# Altium integrated library Motorola Interface Line Transceiver.IntLib: 54 symbols (part 1 of 2)
Pins are listed as number, name and electrical type; pins without a type are passive.

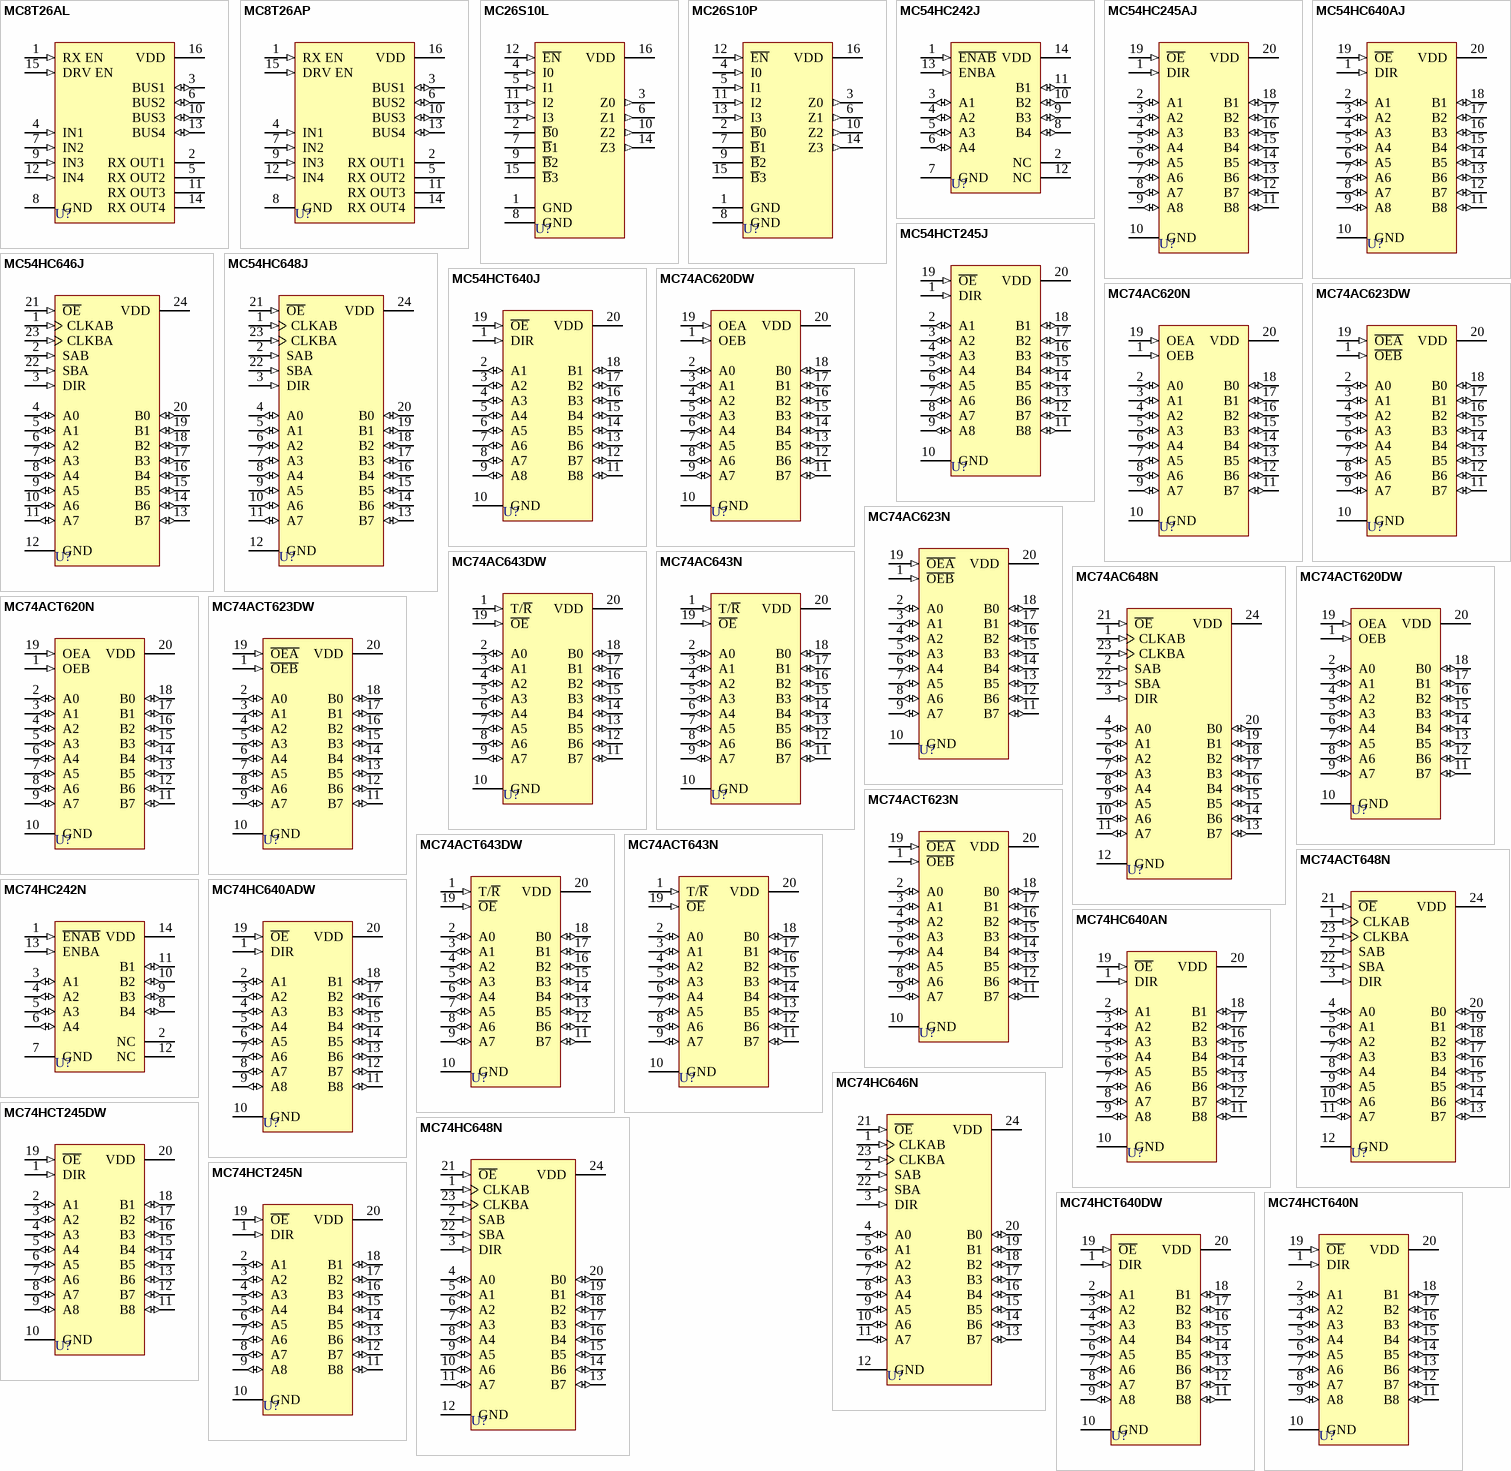
[diagram p0: symbols MC8T26AL to MC74HCT640N]

## MC8T26AL
designator U?
Quad Three-State Bus Transceiver; Published: 17-Jul-2002; LatestRevisionDate: 06-Jun-2005; LatestRevisionNote: Stylized 3D Model Added.; DatasheetVersion: 1988; PackageReference: 620-10; Publisher: Altium Limited; PackageDescription: DIP; 16 Leads; Row Spacing 7.62 mm; Pitch 2.54 mm; ComponentLink1Description: Manufacturer Link; ComponentLink1URL: http://www.onsemi.com/site/products/parametrics/0,4446,178,00.html
footprint 620-10 (DIP; 16 Leads; Row Spacing 7.62 mm; Pitch 2.54 mm)
3D model 620-10 (DIP; 16 Leads; Row Spacing 7.62 mm; Pitch 2.54 mm)
pins: 1 RX EN (in), 2 RX OUT1 (hiz), 3 BUS1 (io), 4 IN1 (in), 5 RX OUT2 (hiz), 6 BUS2 (io), 7 IN2 (in), 8 GND (power), 9 IN3 (in), 10 BUS3 (io), 11 RX OUT3 (hiz), 12 IN4 (in), 13 BUS4 (io), 14 RX OUT4 (hiz), 15 DRV EN (in), 16 VDD (power)

## MC8T26AP
designator U?
Quad Three-State Bus Transceiver; Published: 17-Jul-2002; LatestRevisionDate: 06-Jun-2005; LatestRevisionNote: Stylized 3D Model Added.; DatasheetVersion: 1988; PackageReference: 648-06; Publisher: Altium Limited; PackageDescription: DIP; 16 Leads; Row Spacing 7.62 mm; Pitch 2.54 mm; ComponentLink1Description: Manufacturer Link; ComponentLink1URL: http://www.onsemi.com/site/products/parametrics/0,4446,178,00.html
footprint 648-06 (DIP; 16 Leads; Row Spacing 7.62 mm; Pitch 2.54 mm)
3D model 648-06 (DIP; 16 Leads; Row Spacing 7.62 mm; Pitch 2.54 mm)
pins: 1 RX EN (in), 2 RX OUT1 (hiz), 3 BUS1 (io), 4 IN1 (in), 5 RX OUT2 (hiz), 6 BUS2 (io), 7 IN2 (in), 8 GND (power), 9 IN3 (in), 10 BUS3 (io), 11 RX OUT3 (hiz), 12 IN4 (in), 13 BUS4 (io), 14 RX OUT4 (hiz), 15 DRV EN (in), 16 VDD (power)

## MC26S10L
designator U?
Quad Open-Collector Bus Transceiver; Published: 17-Jul-2002; LatestRevisionDate: 06-Jun-2005; LatestRevisionNote: Stylized 3D Model Added.; DatasheetVersion: 1988; PackageReference: 620-10; Publisher: Altium Limited; PackageDescription: DIP; 16 Leads; Row Spacing 7.62 mm; Pitch 2.54 mm; ComponentLink1Description: Manufacturer Link; ComponentLink1URL: http://www.onsemi.com/site/products/parametrics/0,4446,178,00.html
footprint 620-10 (DIP; 16 Leads; Row Spacing 7.62 mm; Pitch 2.54 mm)
3D model 620-10 (DIP; 16 Leads; Row Spacing 7.62 mm; Pitch 2.54 mm)
pins: 1 GND (power), 2 ~{B}0 (oc), 3 Z0 (out), 4 I0 (in), 5 I1 (in), 6 Z1 (out), 7 ~{B}1 (oc), 8 GND (power), 9 ~{B}2 (oc), 10 Z2 (out), 11 I2 (in), 12 ~{EN} (in), 13 I3 (in), 14 Z3 (out), 15 ~{B}3 (oc), 16 VDD (power)

## MC26S10P
designator U?
Quad Open-Collector Bus Transceiver; Published: 17-Jul-2002; LatestRevisionDate: 06-Jun-2005; LatestRevisionNote: Stylized 3D Model Added.; DatasheetVersion: 1988; PackageReference: 648-06; Publisher: Altium Limited; PackageDescription: DIP; 16 Leads; Row Spacing 7.62 mm; Pitch 2.54 mm; ComponentLink1Description: Manufacturer Link; ComponentLink1URL: http://www.onsemi.com/site/products/parametrics/0,4446,178,00.html
footprint 648-06 (DIP; 16 Leads; Row Spacing 7.62 mm; Pitch 2.54 mm)
3D model 648-06 (DIP; 16 Leads; Row Spacing 7.62 mm; Pitch 2.54 mm)
pins: 1 GND (power), 2 ~{B}0 (oc), 3 Z0 (out), 4 I0 (in), 5 I1 (in), 6 Z1 (out), 7 ~{B}1 (oc), 8 GND (power), 9 ~{B}2 (oc), 10 Z2 (out), 11 I2 (in), 12 ~{EN} (in), 13 I3 (in), 14 Z3 (out), 15 ~{B}3 (oc), 16 VDD (power)

## MC54HC242J
designator U?
Quad 3-State Inverting Bus Transceiver; Published: 17-Jul-2002; LatestRevisionDate: 06-Jun-2005; LatestRevisionNote: Stylized 3D Model Added.; DatasheetVersion: 1989; PackageReference: 632-08; Publisher: Altium Limited; PackageDescription: DIP; 14 Leads; Row Spacing 7.62 mm; Pitch 2.54 mm; ComponentLink1Description: Manufacturer Link; ComponentLink1URL: http://www.onsemi.com/site/products/parametrics/0,4446,178,00.html; ComponentLink2Description: Ibis Model; ComponentLink2URL: http://www.onsemi.com/pub/Collateral/MC54HC242J.IBS
footprint 632-08 (DIP; 14 Leads; Row Spacing 7.62 mm; Pitch 2.54 mm)
3D model 632-08 (DIP; 14 Leads; Row Spacing 7.62 mm; Pitch 2.54 mm)
signal-integrity model MC54HC242J
pins: 1 ~{ENAB} (in), 2 NC, 3 A1 (io), 4 A2 (io), 5 A3 (io), 6 A4 (io), 7 GND (power), 8 B4 (io), 9 B3 (io), 10 B2 (io), 11 B1 (io), 12 NC, 13 ENBA (in), 14 VDD (power)

## MC54HC245AJ
designator U?
Octal 3-State Non-Inverting Bus Transceiver; Published: 17-Jul-2002; LatestRevisionDate: 06-Jun-2005; LatestRevisionNote: Stylized 3D Model Added.; DatasheetVersion: 1989; PackageReference: 732-03; Publisher: Altium Limited; PackageDescription: DIP; 20 Leads; Row Spacing 7.62 mm; Pitch 2.54 mm; Code_JEDEC: MS-015-AE; ComponentLink1Description: Manufacturer Link; ComponentLink1URL: http://www.onsemi.com/site/products/parametrics/0,4446,178,00.html; ComponentLink2Description: Ibis Model; ComponentLink2URL: http://www.onsemi.com/pub/Collateral/MC54HC245AJ.IBS
footprint 732-03 (DIP; 20 Leads; Row Spacing 7.62 mm; Pitch 2.54 mm)
3D model 732-03 (DIP; 20 Leads; Row Spacing 7.62 mm; Pitch 2.54 mm)
signal-integrity model MC54HC245AJ
pins: 1 DIR (in), 2 A1 (io), 3 A2 (io), 4 A3 (io), 5 A4 (io), 6 A5 (io), 7 A6 (io), 8 A7 (io), 9 A8 (io), 10 GND (power), 11 B8 (io), 12 B7 (io), 13 B6 (io), 14 B5 (io), 15 B4 (io), 16 B3 (io), 17 B2 (io), 18 B1 (io), 19 ~{OE} (in), 20 VDD (power)

## MC54HC640AJ
designator U?
Octal 3-State Inverting Bus Transceiver; Published: 17-Jul-2002; LatestRevisionDate: 06-Jun-2005; LatestRevisionNote: Stylized 3D Model Added.; DatasheetVersion: 1989; PackageReference: 732-03; Publisher: Altium Limited; PackageDescription: DIP; 20 Leads; Row Spacing 7.62 mm; Pitch 2.54 mm; Code_JEDEC: MS-015-AE; ComponentLink1Description: Manufacturer Link; ComponentLink1URL: http://www.onsemi.com/site/products/parametrics/0,4446,178,00.html
footprint 732-03 (DIP; 20 Leads; Row Spacing 7.62 mm; Pitch 2.54 mm)
3D model 732-03 (DIP; 20 Leads; Row Spacing 7.62 mm; Pitch 2.54 mm)
signal-integrity model MC54HC640AJ
pins: 1 DIR (in), 2 A1 (io), 3 A2 (io), 4 A3 (io), 5 A4 (io), 6 A5 (io), 7 A6 (io), 8 A7 (io), 9 A8 (io), 10 GND (power), 11 B8 (io), 12 B7 (io), 13 B6 (io), 14 B5 (io), 15 B4 (io), 16 B3 (io), 17 B2 (io), 18 B1 (io), 19 ~{OE} (in), 20 VDD (power)

## MC54HC646J
designator U?
Octal 3-State Non-Inverting Bus Transceiver and D-Type Flip-Flop; Published: 17-Jul-2002; LatestRevisionDate: 06-Jun-2005; LatestRevisionNote: Stylized 3D Model Added.; DatasheetVersion: 1989; PackageReference: 758-01; Publisher: Altium Limited; PackageDescription: DIP; 24 Leads; Row Spacing 7.62 mm; Pitch 2.54 mm; Code_JEDEC: MS-001-AF; ComponentLink1Description: Manufacturer Link; ComponentLink1URL: http://www.onsemi.com/site/products/parametrics/0,4446,178,00.html; ComponentLink2Description: Ibis Model; ComponentLink2URL: http://www.onsemi.com/pub/Collateral/MC54HC646J.IBS
footprint 758-01 (DIP; 24 Leads; Row Spacing 7.62 mm; Pitch 2.54 mm)
3D model 724-03 (DIP; 24 Leads; Row Spacing 7.62 mm; Pitch 2.54 mm)
signal-integrity model MC54HC646J
pins: 1 CLKAB (in), 2 SAB (in), 3 DIR (in), 4 A0 (io), 5 A1 (io), 6 A2 (io), 7 A3 (io), 8 A4 (io), 9 A5 (io), 10 A6 (io), 11 A7 (io), 12 GND (power), 13 B7 (io), 14 B6 (io), 15 B5 (io), 16 B4 (io), 17 B3 (io), 18 B2 (io), 19 B1 (io), 20 B0 (io), 21 ~{OE} (in), 22 SBA (in), 23 CLKBA (in), 24 VDD (power)

## MC54HC648J
designator U?
Octal 3-State Inverting Bus Transceiver and D-Type Flip-Flop; Published: 17-Jul-2002; LatestRevisionDate: 06-Jun-2005; LatestRevisionNote: Stylized 3D Model Added.; DatasheetVersion: 1989; PackageReference: 758-01; Publisher: Altium Limited; PackageDescription: DIP; 24 Leads; Row Spacing 7.62 mm; Pitch 2.54 mm; Code_JEDEC: MS-001-AF; ComponentLink1Description: Manufacturer Link; ComponentLink1URL: http://www.onsemi.com/site/products/parametrics/0,4446,178,00.html; ComponentLink2Description: Ibis Model; ComponentLink2URL: http://www.onsemi.com/pub/Collateral/MC54HC646J.IBS
footprint 758-01 (DIP; 24 Leads; Row Spacing 7.62 mm; Pitch 2.54 mm)
3D model 724-03 (DIP; 24 Leads; Row Spacing 7.62 mm; Pitch 2.54 mm)
signal-integrity model MC54HC648J
pins: 1 CLKAB (in), 2 SAB (in), 3 DIR (in), 4 A0 (io), 5 A1 (io), 6 A2 (io), 7 A3 (io), 8 A4 (io), 9 A5 (io), 10 A6 (io), 11 A7 (io), 12 GND (power), 13 B7 (io), 14 B6 (io), 15 B5 (io), 16 B4 (io), 17 B3 (io), 18 B2 (io), 19 B1 (io), 20 B0 (io), 21 ~{OE} (in), 22 SBA (in), 23 CLKBA (in), 24 VDD (power)

## MC54HCT245J
designator U?
Octal 3-State Non-Inverting Bus Transceiver with LSTTL-Compatible Inputs; Published: 17-Jul-2002; LatestRevisionDate: 06-Jun-2005; LatestRevisionNote: Stylized 3D Model Added.; DatasheetVersion: 1989; PackageReference: 732-03; Publisher: Altium Limited; PackageDescription: DIP; 20 Leads; Row Spacing 7.62 mm; Pitch 2.54 mm; Code_JEDEC: MS-015-AE; ComponentLink1Description: Manufacturer Link; ComponentLink1URL: http://www.onsemi.com/site/products/parametrics/0,4446,178,00.html
footprint 732-03 (DIP; 20 Leads; Row Spacing 7.62 mm; Pitch 2.54 mm)
3D model 732-03 (DIP; 20 Leads; Row Spacing 7.62 mm; Pitch 2.54 mm)
signal-integrity model MC54HCT245J
pins: 1 DIR (in), 2 A1 (io), 3 A2 (io), 4 A3 (io), 5 A4 (io), 6 A5 (io), 7 A6 (io), 8 A7 (io), 9 A8 (io), 10 GND (power), 11 B8 (io), 12 B7 (io), 13 B6 (io), 14 B5 (io), 15 B4 (io), 16 B3 (io), 17 B2 (io), 18 B1 (io), 19 ~{OE} (in), 20 VDD (power)

## MC54HCT640J
designator U?
Octal 3-State Inverting Bus Transceiver with LSTTL-Compatible Inputs; Published: 17-Jul-2002; LatestRevisionDate: 06-Jun-2005; LatestRevisionNote: Stylized 3D Model Added.; DatasheetVersion: 1989; PackageReference: 732-03; Publisher: Altium Limited; PackageDescription: DIP; 20 Leads; Row Spacing 7.62 mm; Pitch 2.54 mm; Code_JEDEC: MS-015-AE; ComponentLink1Description: Manufacturer Link; ComponentLink1URL: http://www.onsemi.com/site/products/parametrics/0,4446,178,00.html
footprint 732-03 (DIP; 20 Leads; Row Spacing 7.62 mm; Pitch 2.54 mm)
3D model 732-03 (DIP; 20 Leads; Row Spacing 7.62 mm; Pitch 2.54 mm)
signal-integrity model MC54HCT640J
pins: 1 DIR (in), 2 A1 (io), 3 A2 (io), 4 A3 (io), 5 A4 (io), 6 A5 (io), 7 A6 (io), 8 A7 (io), 9 A8 (io), 10 GND (power), 11 B8 (io), 12 B7 (io), 13 B6 (io), 14 B5 (io), 15 B4 (io), 16 B3 (io), 17 B2 (io), 18 B1 (io), 19 ~{OE} (in), 20 VDD (power)

## MC74AC620DW
designator U?
Octal Bidirectional Transceiver with 3-State Outputs; Published: 17-Jul-2002; LatestRevisionDate: 13-Apr-2006; LatestRevisionNote: IPC-7351 Footprint Added.; DatasheetVersion: 1990; PackageReference: 751D-03; Publisher: Altium Limited; PackageDescription: 20-Pin Small Outline Integrated Circuit 1.27 mm Pitch; ComponentLink1Description: Manufacturer Link; ComponentLink1URL: http://www.onsemi.com/site/products/parametrics/0,4446,178,00.html; ComponentLink2Description: Ibis Model; ComponentLink2URL: http://www.onsemi.com/pub/Collateral/MC74ACT620N.IBS
footprint 751D-03_N (SOIC, 20-Leads, Body 12.8x7.5mm, Pitch 1.27mm, IPC Medium Density)
footprint 751D-03_L (SOIC, 20-Leads, Body 12.8x7.5mm, Pitch 1.27mm, IPC High Density)
footprint 751D-03_M (SOIC, 20-Leads, Body 12.8x7.5mm, Pitch 1.27mm, IPC Low Density)
3D model 751D-03 (20-Pin Small Outline Integrated Circuit 1.27 mm Pitch)
signal-integrity model MC74AC620DW
pins: 1 OEB (in), 2 A0 (io), 3 A1 (io), 4 A2 (io), 5 A3 (io), 6 A4 (io), 7 A5 (io), 8 A6 (io), 9 A7 (io), 10 GND (power), 11 B7 (io), 12 B6 (io), 13 B5 (io), 14 B4 (io), 15 B3 (io), 16 B2 (io), 17 B1 (io), 18 B0 (io), 19 OEA (in), 20 VDD (power)

## MC74AC620N
designator U?
Octal Bidirectional Transceiver with 3-State Outputs; Published: 17-Jul-2002; LatestRevisionDate: 06-Jun-2005; LatestRevisionNote: Stylized 3D Model Added.; DatasheetVersion: 1990; PackageReference: 738-03; Publisher: Altium Limited; PackageDescription: DIP; 20 Leads; Row Spacing 7.62 mm; Pitch 2.54 mm; Code_JEDEC: MS-001-AD; ComponentLink1Description: Manufacturer Link; ComponentLink1URL: http://www.onsemi.com/site/products/parametrics/0,4446,178,00.html; ComponentLink2Description: Ibis Model; ComponentLink2URL: http://www.onsemi.com/pub/Collateral/MC74ACT620N.IBS
footprint 738-03 (DIP; 20 Leads; Row Spacing 7.62 mm; Pitch 2.54 mm)
3D model 738-03 (DIP; 20 Leads; Row Spacing 7.62 mm; Pitch 2.54 mm)
signal-integrity model MC74AC620N
pins: 1 OEB (in), 2 A0 (io), 3 A1 (io), 4 A2 (io), 5 A3 (io), 6 A4 (io), 7 A5 (io), 8 A6 (io), 9 A7 (io), 10 GND (power), 11 B7 (io), 12 B6 (io), 13 B5 (io), 14 B4 (io), 15 B3 (io), 16 B2 (io), 17 B1 (io), 18 B0 (io), 19 OEA (in), 20 VDD (power)

## MC74AC623DW
designator U?
Octal Bidirectional Transceiver with 3-State Outputs; Published: 17-Jul-2002; LatestRevisionDate: 13-Apr-2006; LatestRevisionNote: IPC-7351 Footprint Added.; DatasheetVersion: 1990; PackageReference: 751D-03; Publisher: Altium Limited; PackageDescription: 20-Pin Small Outline Integrated Circuit 1.27 mm Pitch; ComponentLink1Description: Manufacturer Link; ComponentLink1URL: http://www.onsemi.com/site/products/parametrics/0,4446,178,00.html; ComponentLink2Description: Ibis Model; ComponentLink2URL: http://www.onsemi.com/pub/Collateral/MC74AC623N.IBS
footprint 751D-03_N (SOIC, 20-Leads, Body 12.8x7.5mm, Pitch 1.27mm, IPC Medium Density)
footprint 751D-03_L (SOIC, 20-Leads, Body 12.8x7.5mm, Pitch 1.27mm, IPC High Density)
footprint 751D-03_M (SOIC, 20-Leads, Body 12.8x7.5mm, Pitch 1.27mm, IPC Low Density)
3D model 751D-03 (20-Pin Small Outline Integrated Circuit 1.27 mm Pitch)
signal-integrity model MC74AC623DW
pins: 1 ~{OEB} (in), 2 A0 (io), 3 A1 (io), 4 A2 (io), 5 A3 (io), 6 A4 (io), 7 A5 (io), 8 A6 (io), 9 A7 (io), 10 GND (power), 11 B7 (io), 12 B6 (io), 13 B5 (io), 14 B4 (io), 15 B3 (io), 16 B2 (io), 17 B1 (io), 18 B0 (io), 19 ~{OEA} (in), 20 VDD (power)

## MC74AC623N
designator U?
Octal Bidirectional Transceiver with 3-State Outputs; Published: 17-Jul-2002; LatestRevisionDate: 06-Jun-2005; LatestRevisionNote: Stylized 3D Model Added.; DatasheetVersion: 1990; PackageReference: 738-03; Publisher: Altium Limited; PackageDescription: DIP; 20 Leads; Row Spacing 7.62 mm; Pitch 2.54 mm; Code_JEDEC: MS-001-AD; ComponentLink1Description: Manufacturer Link; ComponentLink1URL: http://www.onsemi.com/site/products/parametrics/0,4446,178,00.html; ComponentLink2Description: Ibis Model; ComponentLink2URL: http://www.onsemi.com/pub/Collateral/MC74AC623N.IBS
footprint 738-03 (DIP; 20 Leads; Row Spacing 7.62 mm; Pitch 2.54 mm)
3D model 738-03 (DIP; 20 Leads; Row Spacing 7.62 mm; Pitch 2.54 mm)
signal-integrity model MC74AC623N
pins: 1 ~{OEB} (in), 2 A0 (io), 3 A1 (io), 4 A2 (io), 5 A3 (io), 6 A4 (io), 7 A5 (io), 8 A6 (io), 9 A7 (io), 10 GND (power), 11 B7 (io), 12 B6 (io), 13 B5 (io), 14 B4 (io), 15 B3 (io), 16 B2 (io), 17 B1 (io), 18 B0 (io), 19 ~{OEA} (in), 20 VDD (power)

## MC74AC643DW
designator U?
Octal Bidirectional Transceiver with 3-State Outputs; Published: 17-Jul-2002; LatestRevisionDate: 13-Apr-2006; LatestRevisionNote: IPC-7351 Footprint Added.; DatasheetVersion: 1990; PackageReference: 751D-03; Publisher: Altium Limited; PackageDescription: 20-Pin Small Outline Integrated Circuit 1.27 mm Pitch; ComponentLink1Description: Manufacturer Link; ComponentLink1URL: http://www.onsemi.com/site/products/parametrics/0,4446,178,00.html
footprint 751D-03_N (SOIC, 20-Leads, Body 12.8x7.5mm, Pitch 1.27mm, IPC Medium Density)
footprint 751D-03_L (SOIC, 20-Leads, Body 12.8x7.5mm, Pitch 1.27mm, IPC High Density)
footprint 751D-03_M (SOIC, 20-Leads, Body 12.8x7.5mm, Pitch 1.27mm, IPC Low Density)
3D model 751D-03 (20-Pin Small Outline Integrated Circuit 1.27 mm Pitch)
signal-integrity model MC74AC643DW
pins: 1 T/~{R} (in), 2 A0 (io), 3 A1 (io), 4 A2 (io), 5 A3 (io), 6 A4 (io), 7 A5 (io), 8 A6 (io), 9 A7 (io), 10 GND (power), 11 B7 (io), 12 B6 (io), 13 B5 (io), 14 B4 (io), 15 B3 (io), 16 B2 (io), 17 B1 (io), 18 B0 (io), 19 ~{OE} (in), 20 VDD (power)

## MC74AC643N
designator U?
Octal Bidirectional Transceiver with 3-State Outputs; Published: 17-Jul-2002; LatestRevisionDate: 06-Jun-2005; LatestRevisionNote: Stylized 3D Model Added.; DatasheetVersion: 1990; PackageReference: 738-03; Publisher: Altium Limited; PackageDescription: DIP; 20 Leads; Row Spacing 7.62 mm; Pitch 2.54 mm; Code_JEDEC: MS-001-AD; ComponentLink1Description: Manufacturer Link; ComponentLink1URL: http://www.onsemi.com/site/products/parametrics/0,4446,178,00.html
footprint 738-03 (DIP; 20 Leads; Row Spacing 7.62 mm; Pitch 2.54 mm)
3D model 738-03 (DIP; 20 Leads; Row Spacing 7.62 mm; Pitch 2.54 mm)
signal-integrity model MC74AC643N
pins: 1 T/~{R} (in), 2 A0 (io), 3 A1 (io), 4 A2 (io), 5 A3 (io), 6 A4 (io), 7 A5 (io), 8 A6 (io), 9 A7 (io), 10 GND (power), 11 B7 (io), 12 B6 (io), 13 B5 (io), 14 B4 (io), 15 B3 (io), 16 B2 (io), 17 B1 (io), 18 B0 (io), 19 ~{OE} (in), 20 VDD (power)

## MC74AC648N
designator U?
Octal Bus Transceiver and Register; Published: 17-Jul-2002; LatestRevisionDate: 06-Jun-2005; LatestRevisionNote: Stylized 3D Model Added.; DatasheetVersion: 1990; PackageReference: 724-03; Publisher: Altium Limited; PackageDescription: DIP; 24 Leads; Row Spacing 7.62 mm; Pitch 2.54 mm; Code_JEDEC: MS-001-AF; ComponentLink1Description: Manufacturer Link; ComponentLink1URL: http://www.onsemi.com/site/products/parametrics/0,4446,178,00.html
footprint 724-03 (DIP; 24 Leads; Row Spacing 7.62 mm; Pitch 2.54 mm)
3D model 724-03 (DIP; 24 Leads; Row Spacing 7.62 mm; Pitch 2.54 mm)
signal-integrity model MC74AC648N
pins: 1 CLKAB (in), 2 SAB (in), 3 DIR (in), 4 A0 (io), 5 A1 (io), 6 A2 (io), 7 A3 (io), 8 A4 (io), 9 A5 (io), 10 A6 (io), 11 A7 (io), 12 GND (power), 13 B7 (io), 14 B6 (io), 15 B5 (io), 16 B4 (io), 17 B3 (io), 18 B2 (io), 19 B1 (io), 20 B0 (io), 21 ~{OE} (in), 22 SBA (in), 23 CLKBA (in), 24 VDD (power)

## MC74ACT620DW
designator U?
Octal Bidirectional Transceiver with 3-State Outputs; Published: 17-Jul-2002; LatestRevisionDate: 13-Apr-2006; LatestRevisionNote: IPC-7351 Footprint Added.; DatasheetVersion: 1990; PackageReference: 751D-03; Publisher: Altium Limited; PackageDescription: 20-Pin Small Outline Integrated Circuit 1.27 mm Pitch; ComponentLink1Description: Manufacturer Link; ComponentLink1URL: http://www.onsemi.com/site/products/parametrics/0,4446,178,00.html; ComponentLink2Description: Ibis Model; ComponentLink2URL: http://www.onsemi.com/pub/Collateral/MC74ACT620N.IBS
footprint 751D-03_N (SOIC, 20-Leads, Body 12.8x7.5mm, Pitch 1.27mm, IPC Medium Density)
footprint 751D-03_L (SOIC, 20-Leads, Body 12.8x7.5mm, Pitch 1.27mm, IPC High Density)
footprint 751D-03_M (SOIC, 20-Leads, Body 12.8x7.5mm, Pitch 1.27mm, IPC Low Density)
3D model 751D-03 (20-Pin Small Outline Integrated Circuit 1.27 mm Pitch)
signal-integrity model MC74ACT620DW
pins: 1 OEB (in), 2 A0 (io), 3 A1 (io), 4 A2 (io), 5 A3 (io), 6 A4 (io), 7 A5 (io), 8 A6 (io), 9 A7 (io), 10 GND (power), 11 B7 (io), 12 B6 (io), 13 B5 (io), 14 B4 (io), 15 B3 (io), 16 B2 (io), 17 B1 (io), 18 B0 (io), 19 OEA (in), 20 VDD (power)

## MC74ACT620N
designator U?
Octal Bidirectional Transceiver with 3-State Outputs; Published: 17-Jul-2002; LatestRevisionDate: 06-Jun-2005; LatestRevisionNote: Stylized 3D Model Added.; DatasheetVersion: 1990; PackageReference: 738-03; Publisher: Altium Limited; PackageDescription: DIP; 20 Leads; Row Spacing 7.62 mm; Pitch 2.54 mm; Code_JEDEC: MS-001-AD; ComponentLink1Description: Manufacturer Link; ComponentLink1URL: http://www.onsemi.com/site/products/parametrics/0,4446,178,00.html; ComponentLink2Description: Ibis Model; ComponentLink2URL: http://www.onsemi.com/pub/Collateral/MC74ACT620N.IBS
footprint 738-03 (DIP; 20 Leads; Row Spacing 7.62 mm; Pitch 2.54 mm)
3D model 738-03 (DIP; 20 Leads; Row Spacing 7.62 mm; Pitch 2.54 mm)
signal-integrity model MC74ACT620N
pins: 1 OEB (in), 2 A0 (io), 3 A1 (io), 4 A2 (io), 5 A3 (io), 6 A4 (io), 7 A5 (io), 8 A6 (io), 9 A7 (io), 10 GND (power), 11 B7 (io), 12 B6 (io), 13 B5 (io), 14 B4 (io), 15 B3 (io), 16 B2 (io), 17 B1 (io), 18 B0 (io), 19 OEA (in), 20 VDD (power)

## MC74ACT623DW
designator U?
Octal Bidirectional Transceiver with 3-State Outputs; Published: 17-Jul-2002; LatestRevisionDate: 13-Apr-2006; LatestRevisionNote: IPC-7351 Footprint Added.; DatasheetVersion: 1990; PackageReference: 751D-03; Publisher: Altium Limited; PackageDescription: 20-Pin Small Outline Integrated Circuit 1.27 mm Pitch; ComponentLink1Description: Manufacturer Link; ComponentLink1URL: http://www.onsemi.com/site/products/parametrics/0,4446,178,00.html; ComponentLink2Description: Ibis Model; ComponentLink2URL: http://www.onsemi.com/pub/Collateral/MC74AC623N.IBS
footprint 751D-03_N (SOIC, 20-Leads, Body 12.8x7.5mm, Pitch 1.27mm, IPC Medium Density)
footprint 751D-03_L (SOIC, 20-Leads, Body 12.8x7.5mm, Pitch 1.27mm, IPC High Density)
footprint 751D-03_M (SOIC, 20-Leads, Body 12.8x7.5mm, Pitch 1.27mm, IPC Low Density)
3D model 751D-03 (20-Pin Small Outline Integrated Circuit 1.27 mm Pitch)
signal-integrity model MC74ACT623DW
pins: 1 ~{OEB} (in), 2 A0 (io), 3 A1 (io), 4 A2 (io), 5 A3 (io), 6 A4 (io), 7 A5 (io), 8 A6 (io), 9 A7 (io), 10 GND (power), 11 B7 (io), 12 B6 (io), 13 B5 (io), 14 B4 (io), 15 B3 (io), 16 B2 (io), 17 B1 (io), 18 B0 (io), 19 ~{OEA} (in), 20 VDD (power)

## MC74ACT623N
designator U?
Octal Bidirectional Transceiver with 3-State Outputs; Published: 17-Jul-2002; LatestRevisionDate: 06-Jun-2005; LatestRevisionNote: Stylized 3D Model Added.; DatasheetVersion: 1990; PackageReference: 738-03; Publisher: Altium Limited; PackageDescription: DIP; 20 Leads; Row Spacing 7.62 mm; Pitch 2.54 mm; Code_JEDEC: MS-001-AD; ComponentLink1Description: Manufacturer Link; ComponentLink1URL: http://www.onsemi.com/site/products/parametrics/0,4446,178,00.html; ComponentLink2Description: Ibis Model; ComponentLink2URL: http://www.onsemi.com/pub/Collateral/MC74AC623N.IBS
footprint 738-03 (DIP; 20 Leads; Row Spacing 7.62 mm; Pitch 2.54 mm)
3D model 738-03 (DIP; 20 Leads; Row Spacing 7.62 mm; Pitch 2.54 mm)
signal-integrity model MC74ACT623N
pins: 1 ~{OEB} (in), 2 A0 (io), 3 A1 (io), 4 A2 (io), 5 A3 (io), 6 A4 (io), 7 A5 (io), 8 A6 (io), 9 A7 (io), 10 GND (power), 11 B7 (io), 12 B6 (io), 13 B5 (io), 14 B4 (io), 15 B3 (io), 16 B2 (io), 17 B1 (io), 18 B0 (io), 19 ~{OEA} (in), 20 VDD (power)

## MC74ACT643DW
designator U?
Octal Bidirectional Transceiver with 3-State Outputs; Published: 17-Jul-2002; LatestRevisionDate: 13-Apr-2006; LatestRevisionNote: IPC-7351 Footprint Added.; DatasheetVersion: 1990; PackageReference: 751D-03; Publisher: Altium Limited; PackageDescription: 20-Pin Small Outline Integrated Circuit 1.27 mm Pitch; ComponentLink1Description: Manufacturer Link; ComponentLink1URL: http://www.onsemi.com/site/products/parametrics/0,4446,178,00.html
footprint 751D-03_N (SOIC, 20-Leads, Body 12.8x7.5mm, Pitch 1.27mm, IPC Medium Density)
footprint 751D-03_L (SOIC, 20-Leads, Body 12.8x7.5mm, Pitch 1.27mm, IPC High Density)
footprint 751D-03_M (SOIC, 20-Leads, Body 12.8x7.5mm, Pitch 1.27mm, IPC Low Density)
3D model 751D-03 (20-Pin Small Outline Integrated Circuit 1.27 mm Pitch)
signal-integrity model MC74ACT643DW
pins: 1 T/~{R} (in), 2 A0 (io), 3 A1 (io), 4 A2 (io), 5 A3 (io), 6 A4 (io), 7 A5 (io), 8 A6 (io), 9 A7 (io), 10 GND (power), 11 B7 (io), 12 B6 (io), 13 B5 (io), 14 B4 (io), 15 B3 (io), 16 B2 (io), 17 B1 (io), 18 B0 (io), 19 ~{OE} (in), 20 VDD (power)

## MC74ACT643N
designator U?
Octal Bidirectional Transceiver with 3-State Outputs; Published: 17-Jul-2002; LatestRevisionDate: 06-Jun-2005; LatestRevisionNote: Stylized 3D Model Added.; DatasheetVersion: 1990; PackageReference: 738-03; Publisher: Altium Limited; PackageDescription: DIP; 20 Leads; Row Spacing 7.62 mm; Pitch 2.54 mm; Code_JEDEC: MS-001-AD; ComponentLink1Description: Manufacturer Link; ComponentLink1URL: http://www.onsemi.com/site/products/parametrics/0,4446,178,00.html
footprint 738-03 (DIP; 20 Leads; Row Spacing 7.62 mm; Pitch 2.54 mm)
3D model 738-03 (DIP; 20 Leads; Row Spacing 7.62 mm; Pitch 2.54 mm)
signal-integrity model MC74ACT643N
pins: 1 T/~{R} (in), 2 A0 (io), 3 A1 (io), 4 A2 (io), 5 A3 (io), 6 A4 (io), 7 A5 (io), 8 A6 (io), 9 A7 (io), 10 GND (power), 11 B7 (io), 12 B6 (io), 13 B5 (io), 14 B4 (io), 15 B3 (io), 16 B2 (io), 17 B1 (io), 18 B0 (io), 19 ~{OE} (in), 20 VDD (power)

## MC74ACT648N
designator U?
Octal Bus Transceiver and Register; Published: 17-Jul-2002; LatestRevisionDate: 06-Jun-2005; LatestRevisionNote: Stylized 3D Model Added.; DatasheetVersion: 1990; PackageReference: 724-03; Publisher: Altium Limited; PackageDescription: DIP; 24 Leads; Row Spacing 7.62 mm; Pitch 2.54 mm; Code_JEDEC: MS-001-AF; ComponentLink1Description: Manufacturer Link; ComponentLink1URL: http://www.onsemi.com/site/products/parametrics/0,4446,178,00.html
footprint 724-03 (DIP; 24 Leads; Row Spacing 7.62 mm; Pitch 2.54 mm)
3D model 724-03 (DIP; 24 Leads; Row Spacing 7.62 mm; Pitch 2.54 mm)
signal-integrity model MC74ACT648N
pins: 1 CLKAB (in), 2 SAB (in), 3 DIR (in), 4 A0 (io), 5 A1 (io), 6 A2 (io), 7 A3 (io), 8 A4 (io), 9 A5 (io), 10 A6 (io), 11 A7 (io), 12 GND (power), 13 B7 (io), 14 B6 (io), 15 B5 (io), 16 B4 (io), 17 B3 (io), 18 B2 (io), 19 B1 (io), 20 B0 (io), 21 ~{OE} (in), 22 SBA (in), 23 CLKBA (in), 24 VDD (power)

## MC74HC242N
designator U?
Quad 3-State Inverting Bus Transceiver; Published: 17-Jul-2002; LatestRevisionDate: 06-Jun-2005; LatestRevisionNote: Stylized 3D Model Added.; DatasheetVersion: 1989; PackageVersion: 1997; PackageReference: 646-06; Publisher: Altium Limited; PackageDescription: DIP; 14 Leads; Row Spacing 7.62 mm; Pitch 2.54 mm; ComponentLink1Description: Manufacturer Link; ComponentLink1URL: http://www.onsemi.com/site/products/parametrics/0,4446,178,00.html; ComponentLink2Description: Ibis Model; ComponentLink2URL: http://www.onsemi.com/pub/Collateral/MC54HC242J.IBS
footprint 646-06 (DIP; 14 Leads; Row Spacing 7.62 mm; Pitch 2.54 mm)
3D model 646-06 (DIP; 14 Leads; Row Spacing 7.62 mm; Pitch 2.54 mm)
signal-integrity model MC74HC242N
pins: 1 ~{ENAB} (in), 2 NC, 3 A1 (io), 4 A2 (io), 5 A3 (io), 6 A4 (io), 7 GND (power), 8 B4 (io), 9 B3 (io), 10 B2 (io), 11 B1 (io), 12 NC, 13 ENBA (in), 14 VDD (power)

## MC74HC640ADW
designator U?
Octal 3-State Inverting Bus Transceiver; Published: 17-Jul-2002; LatestRevisionDate: 13-Apr-2006; LatestRevisionNote: IPC-7351 Footprint Added.; DatasheetVersion: 1989; PackageReference: 751D-03; Publisher: Altium Limited; PackageDescription: 20-Pin Small Outline Integrated Circuit 1.27 mm Pitch; ComponentLink1Description: Manufacturer Link; ComponentLink1URL: http://www.onsemi.com/site/products/parametrics/0,4446,178,00.html
footprint 751D-03_N (SOIC, 20-Leads, Body 12.8x7.5mm, Pitch 1.27mm, IPC Medium Density)
footprint 751D-03_L (SOIC, 20-Leads, Body 12.8x7.5mm, Pitch 1.27mm, IPC High Density)
footprint 751D-03_M (SOIC, 20-Leads, Body 12.8x7.5mm, Pitch 1.27mm, IPC Low Density)
3D model 751D-03 (20-Pin Small Outline Integrated Circuit 1.27 mm Pitch)
signal-integrity model MC74HC640ADW
pins: 1 DIR (in), 2 A1 (io), 3 A2 (io), 4 A3 (io), 5 A4 (io), 6 A5 (io), 7 A6 (io), 8 A7 (io), 9 A8 (io), 10 GND (power), 11 B8 (io), 12 B7 (io), 13 B6 (io), 14 B5 (io), 15 B4 (io), 16 B3 (io), 17 B2 (io), 18 B1 (io), 19 ~{OE} (in), 20 VDD (power)

## MC74HC640AN
designator U?
Octal 3-State Inverting Bus Transceiver; Published: 17-Jul-2002; LatestRevisionDate: 06-Jun-2005; LatestRevisionNote: Stylized 3D Model Added.; DatasheetVersion: 1989; PackageReference: 738-03; Publisher: Altium Limited; PackageDescription: DIP; 20 Leads; Row Spacing 7.62 mm; Pitch 2.54 mm; Code_JEDEC: MS-001-AD; ComponentLink1Description: Manufacturer Link; ComponentLink1URL: http://www.onsemi.com/site/products/parametrics/0,4446,178,00.html
footprint 738-03 (DIP; 20 Leads; Row Spacing 7.62 mm; Pitch 2.54 mm)
3D model 738-03 (DIP; 20 Leads; Row Spacing 7.62 mm; Pitch 2.54 mm)
signal-integrity model MC74HC640AN
pins: 1 DIR (in), 2 A1 (io), 3 A2 (io), 4 A3 (io), 5 A4 (io), 6 A5 (io), 7 A6 (io), 8 A7 (io), 9 A8 (io), 10 GND (power), 11 B8 (io), 12 B7 (io), 13 B6 (io), 14 B5 (io), 15 B4 (io), 16 B3 (io), 17 B2 (io), 18 B1 (io), 19 ~{OE} (in), 20 VDD (power)

## MC74HC646N
designator U?
Octal 3-State Non-Inverting Bus Transceiver and D-Type Flip-Flop; Published: 17-Jul-2002; LatestRevisionDate: 06-Jun-2005; LatestRevisionNote: Stylized 3D Model Added.; DatasheetVersion: 1989; PackageReference: 724-03; Publisher: Altium Limited; PackageDescription: DIP; 24 Leads; Row Spacing 7.62 mm; Pitch 2.54 mm; Code_JEDEC: MS-001-AF; ComponentLink1Description: Manufacturer Link; ComponentLink1URL: http://www.onsemi.com/site/products/parametrics/0,4446,178,00.html; ComponentLink2Description: Ibis Model; ComponentLink2URL: http://www.onsemi.com/pub/Collateral/MC54HC646J.IBS
footprint 724-03 (DIP; 24 Leads; Row Spacing 7.62 mm; Pitch 2.54 mm)
3D model 724-03 (DIP; 24 Leads; Row Spacing 7.62 mm; Pitch 2.54 mm)
signal-integrity model MC74HC646N
pins: 1 CLKAB (in), 2 SAB (in), 3 DIR (in), 4 A0 (io), 5 A1 (io), 6 A2 (io), 7 A3 (io), 8 A4 (io), 9 A5 (io), 10 A6 (io), 11 A7 (io), 12 GND (power), 13 B7 (io), 14 B6 (io), 15 B5 (io), 16 B4 (io), 17 B3 (io), 18 B2 (io), 19 B1 (io), 20 B0 (io), 21 ~{OE} (in), 22 SBA (in), 23 CLKBA (in), 24 VDD (power)

## MC74HC648N
designator U?
Octal 3-State Inverting Bus Transceiver and D-Type Flip-Flop; Published: 17-Jul-2002; LatestRevisionDate: 06-Jun-2005; LatestRevisionNote: Stylized 3D Model Added.; DatasheetVersion: 1989; PackageReference: 724-03; Publisher: Altium Limited; PackageDescription: DIP; 24 Leads; Row Spacing 7.62 mm; Pitch 2.54 mm; Code_JEDEC: MS-001-AF; ComponentLink1Description: Manufacturer Link; ComponentLink1URL: http://www.onsemi.com/site/products/parametrics/0,4446,178,00.html; ComponentLink2Description: Ibis Model; ComponentLink2URL: http://www.onsemi.com/pub/Collateral/MC54HC646J.IBS
footprint 724-03 (DIP; 24 Leads; Row Spacing 7.62 mm; Pitch 2.54 mm)
3D model 724-03 (DIP; 24 Leads; Row Spacing 7.62 mm; Pitch 2.54 mm)
signal-integrity model MC74HC648N
pins: 1 CLKAB (in), 2 SAB (in), 3 DIR (in), 4 A0 (io), 5 A1 (io), 6 A2 (io), 7 A3 (io), 8 A4 (io), 9 A5 (io), 10 A6 (io), 11 A7 (io), 12 GND (power), 13 B7 (io), 14 B6 (io), 15 B5 (io), 16 B4 (io), 17 B3 (io), 18 B2 (io), 19 B1 (io), 20 B0 (io), 21 ~{OE} (in), 22 SBA (in), 23 CLKBA (in), 24 VDD (power)

## MC74HCT245DW
designator U?
Octal 3-State Non-Inverting Bus Transceiver with LSTTL-Compatible Inputs; Published: 17-Jul-2002; LatestRevisionDate: 13-Apr-2006; LatestRevisionNote: IPC-7351 Footprint Added.; DatasheetVersion: 1989; PackageReference: 751D-03; Publisher: Altium Limited; PackageDescription: 20-Pin Small Outline Integrated Circuit 1.27 mm Pitch; ComponentLink1Description: Manufacturer Link; ComponentLink1URL: http://www.onsemi.com/site/products/parametrics/0,4446,178,00.html
footprint 751D-03_N (SOIC, 20-Leads, Body 12.8x7.5mm, Pitch 1.27mm, IPC Medium Density)
footprint 751D-03_L (SOIC, 20-Leads, Body 12.8x7.5mm, Pitch 1.27mm, IPC High Density)
footprint 751D-03_M (SOIC, 20-Leads, Body 12.8x7.5mm, Pitch 1.27mm, IPC Low Density)
3D model 751D-03 (20-Pin Small Outline Integrated Circuit 1.27 mm Pitch)
signal-integrity model MC74HCT245DW
pins: 1 DIR (in), 2 A1 (io), 3 A2 (io), 4 A3 (io), 5 A4 (io), 6 A5 (io), 7 A6 (io), 8 A7 (io), 9 A8 (io), 10 GND (power), 11 B8 (io), 12 B7 (io), 13 B6 (io), 14 B5 (io), 15 B4 (io), 16 B3 (io), 17 B2 (io), 18 B1 (io), 19 ~{OE} (in), 20 VDD (power)

## MC74HCT245N
designator U?
Octal 3-State Non-Inverting Bus Transceiver with LSTTL-Compatible Inputs; Published: 17-Jul-2002; LatestRevisionDate: 06-Jun-2005; LatestRevisionNote: Stylized 3D Model Added.; DatasheetVersion: 1989; PackageReference: 738-03; Publisher: Altium Limited; PackageDescription: DIP; 20 Leads; Row Spacing 7.62 mm; Pitch 2.54 mm; Code_JEDEC: MS-001-AD; ComponentLink1Description: Manufacturer Link; ComponentLink1URL: http://www.onsemi.com/site/products/parametrics/0,4446,178,00.html
footprint 738-03 (DIP; 20 Leads; Row Spacing 7.62 mm; Pitch 2.54 mm)
3D model 738-03 (DIP; 20 Leads; Row Spacing 7.62 mm; Pitch 2.54 mm)
signal-integrity model MC74HCT245N
pins: 1 DIR (in), 2 A1 (io), 3 A2 (io), 4 A3 (io), 5 A4 (io), 6 A5 (io), 7 A6 (io), 8 A7 (io), 9 A8 (io), 10 GND (power), 11 B8 (io), 12 B7 (io), 13 B6 (io), 14 B5 (io), 15 B4 (io), 16 B3 (io), 17 B2 (io), 18 B1 (io), 19 ~{OE} (in), 20 VDD (power)

## MC74HCT640DW
designator U?
Octal 3-State Inverting Bus Transceiver with LSTTL-Compatible Inputs; Published: 17-Jul-2002; LatestRevisionDate: 13-Apr-2006; LatestRevisionNote: IPC-7351 Footprint Added.; DatasheetVersion: 1989; PackageReference: 751D-03; Publisher: Altium Limited; PackageDescription: 20-Pin Small Outline Integrated Circuit 1.27 mm Pitch; ComponentLink1Description: Manufacturer Link; ComponentLink1URL: http://www.onsemi.com/site/products/parametrics/0,4446,178,00.html
footprint 751D-03_N (SOIC, 20-Leads, Body 12.8x7.5mm, Pitch 1.27mm, IPC Medium Density)
footprint 751D-03_L (SOIC, 20-Leads, Body 12.8x7.5mm, Pitch 1.27mm, IPC High Density)
footprint 751D-03_M (SOIC, 20-Leads, Body 12.8x7.5mm, Pitch 1.27mm, IPC Low Density)
3D model 751D-03 (20-Pin Small Outline Integrated Circuit 1.27 mm Pitch)
signal-integrity model MC74HCT640DW
pins: 1 DIR (in), 2 A1 (io), 3 A2 (io), 4 A3 (io), 5 A4 (io), 6 A5 (io), 7 A6 (io), 8 A7 (io), 9 A8 (io), 10 GND (power), 11 B8 (io), 12 B7 (io), 13 B6 (io), 14 B5 (io), 15 B4 (io), 16 B3 (io), 17 B2 (io), 18 B1 (io), 19 ~{OE} (in), 20 VDD (power)

## MC74HCT640N
designator U?
Octal 3-State Inverting Bus Transceiver with LSTTL-Compatible Inputs; Published: 17-Jul-2002; LatestRevisionDate: 06-Jun-2005; LatestRevisionNote: Stylized 3D Model Added.; DatasheetVersion: 1989; PackageReference: 738-03; Publisher: Altium Limited; PackageDescription: DIP; 20 Leads; Row Spacing 7.62 mm; Pitch 2.54 mm; Code_JEDEC: MS-001-AD; ComponentLink1Description: Manufacturer Link; ComponentLink1URL: http://www.onsemi.com/site/products/parametrics/0,4446,178,00.html
footprint 738-03 (DIP; 20 Leads; Row Spacing 7.62 mm; Pitch 2.54 mm)
3D model 738-03 (DIP; 20 Leads; Row Spacing 7.62 mm; Pitch 2.54 mm)
signal-integrity model MC74HCT640N
pins: 1 DIR (in), 2 A1 (io), 3 A2 (io), 4 A3 (io), 5 A4 (io), 6 A5 (io), 7 A6 (io), 8 A7 (io), 9 A8 (io), 10 GND (power), 11 B8 (io), 12 B7 (io), 13 B6 (io), 14 B5 (io), 15 B4 (io), 16 B3 (io), 17 B2 (io), 18 B1 (io), 19 ~{OE} (in), 20 VDD (power)

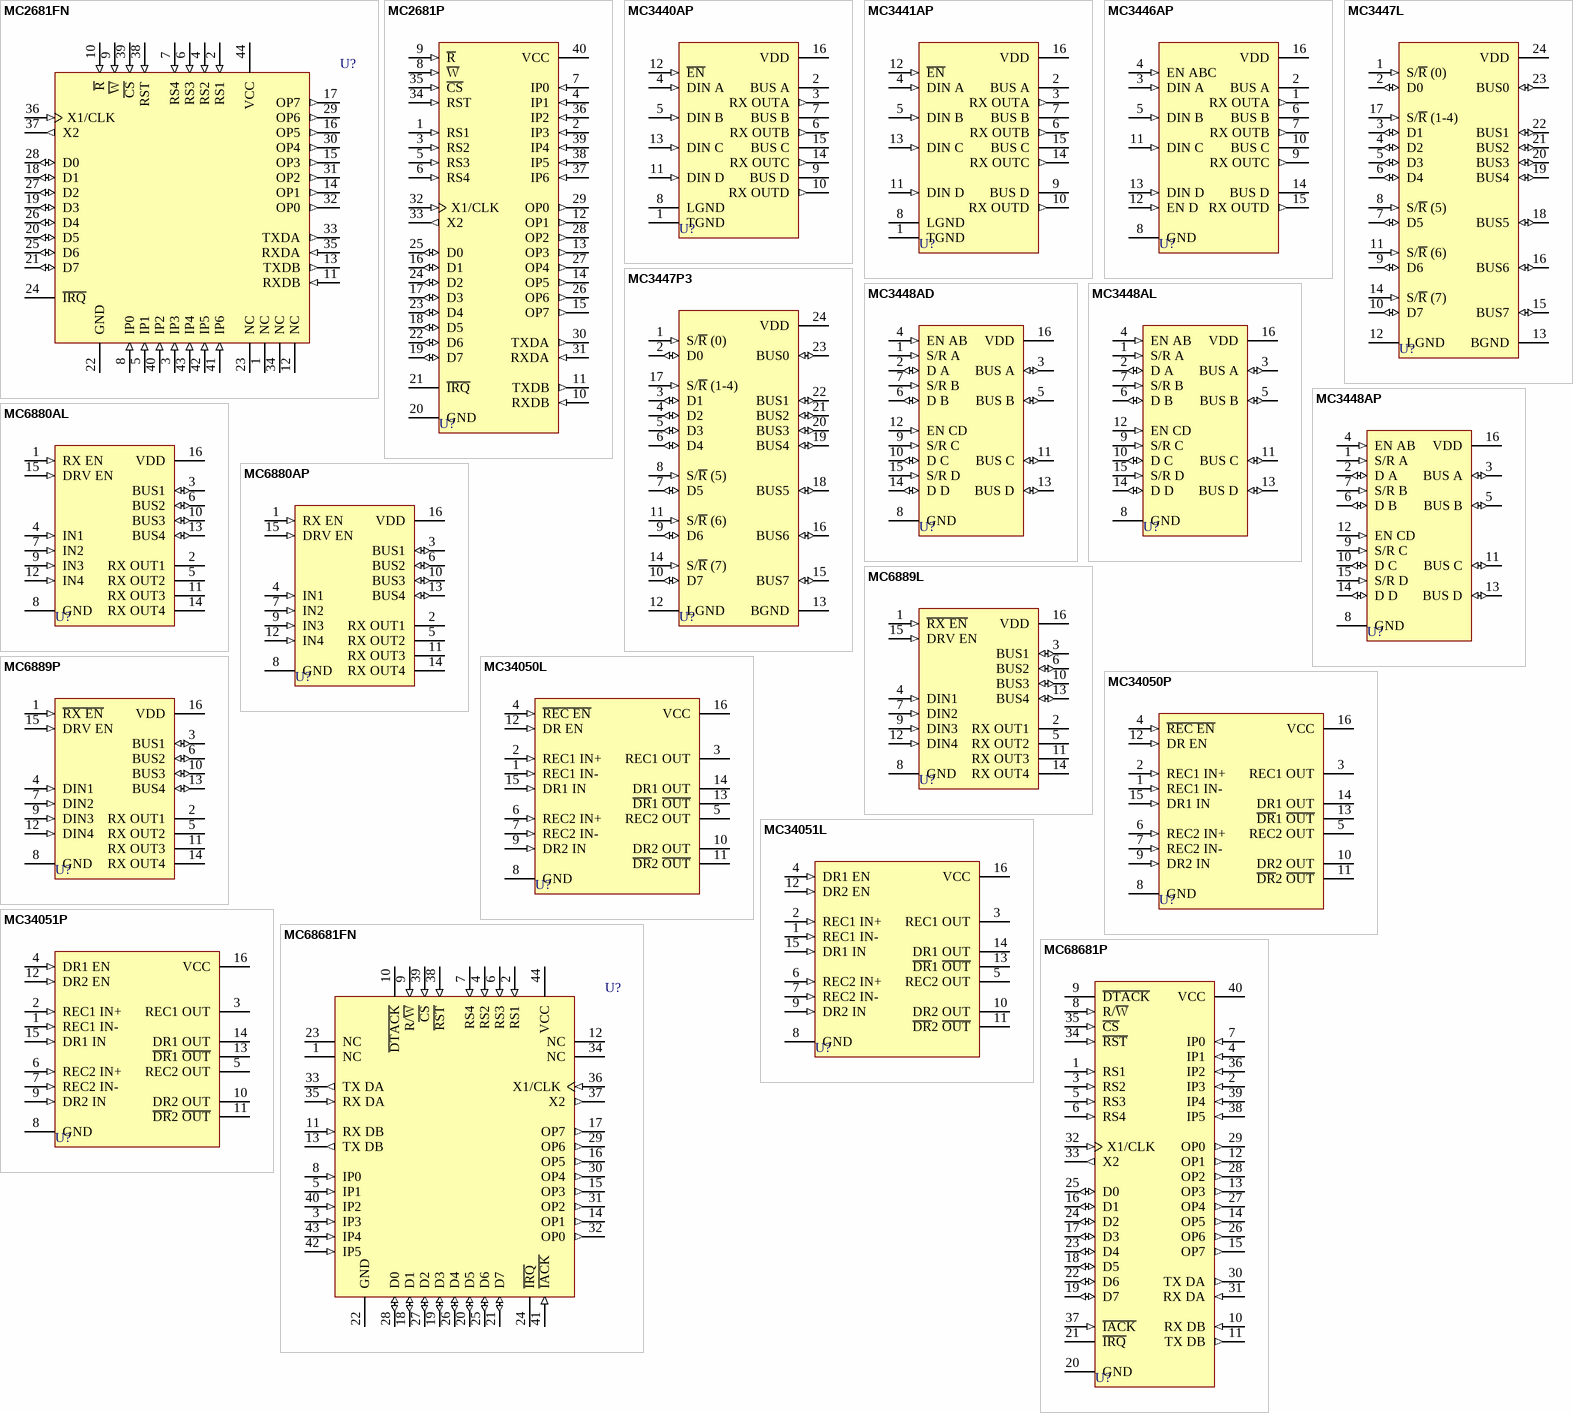
[diagram p1: symbols MC2681FN to MC68681P]

## MC2681FN
designator U?
Dual Asynchronous Receiver/Transmitter; Published: 17-Jul-2002; LatestRevisionDate: 13-Apr-2006; LatestRevisionNote: IPC-7351 Footprint Added.; DatasheetVersion: 1990; PackageVersion: rev3, Feb-2002; PackageReference: 777-02; Publisher: Altium Limited; PackageDescription: 44-Pin Plastic Leaded Chip Carrier 1.27 mm Pitch; ComponentLink1Description: Manufacturer Link; ComponentLink1URL: http://www.onsemi.com/site/products/parametrics/0,4446,178,00.html
footprint 777-02_N (Leaded Chip Carrier, 44-Leads, Body 16.6x16.6mm, Pitch 1.27mm, IPC Medium Density)
footprint 777-02_L (Leaded Chip Carrier, 44-Leads, Body 16.6x16.6mm, Pitch 1.27mm, IPC High Density)
footprint 777-02_M (Leaded Chip Carrier, 44-Leads, Body 16.6x16.6mm, Pitch 1.27mm, IPC Low Density)
3D model MC2681-777-02 (44-Pin Plastic Leaded Chip Carrier 1.27 mm Pitch)
pins: 1 NC, 2 RS1 (in), 3 IP3 (in), 4 RS2 (in), 5 IP1 (in), 6 RS3 (in), 7 RS4 (in), 8 IP0 (in), 9 ~{W} (in), 10 ~{R} (in), 11 RXDB (in), 12 NC, 13 TXDB (out), 14 OP1 (out), 15 OP3 (out), 16 OP5 (out), 17 OP7 (out), 18 D1 (io), 19 D3 (io), 20 D5 (io), 21 D7 (io), 22 GND (power), 23 NC, 24 ~{IRQ} (oc), 25 D6 (io), 26 D4 (io), 27 D2 (io), 28 D0 (io), 29 OP6 (out), 30 OP4 (out), 31 OP2 (out), 32 OP0 (out), 33 TXDA (out), 34 NC, 35 RXDA (in), 36 X1/CLK (in), 37 X2 (out), 38 RST (in), 39 ~{CS} (in), 40 IP2 (in), 41 IP6 (in), 42 IP5 (in), 43 IP4 (in), 44 VCC (power)

## MC2681P
designator U?
Dual Asynchronous Receiver/Transmitter; Published: 17-Jul-2002; LatestRevisionDate: 06-Jun-2005; LatestRevisionNote: Stylized 3D Model Added.; DatasheetVersion: 1990; PackageReference: 711-03; Publisher: Altium Limited; PackageDescription: DIP; 40 Leads; Row Spacing 15.24 mm; Pitch 2.54 mm; ComponentLink1Description: Manufacturer Link; ComponentLink1URL: http://www.onsemi.com/site/products/parametrics/0,4446,178,00.html
footprint 711-03 (DIP; 40 Leads; Row Spacing 15.24 mm; Pitch 2.54 mm)
3D model 711-03 (DIP; 40 Leads; Row Spacing 15.24 mm; Pitch 2.54 mm)
pins: 1 RS1 (in), 2 IP3 (in), 3 RS2 (in), 4 IP1 (in), 5 RS3 (in), 6 RS4 (in), 7 IP0 (in), 8 ~{W} (in), 9 ~{R} (in), 10 RXDB (in), 11 TXDB (out), 12 OP1 (out), 13 OP3 (out), 14 OP5 (out), 15 OP7 (out), 16 D1 (io), 17 D3 (io), 18 D5 (io), 19 D7 (io), 20 GND (power), 21 ~{IRQ} (oc), 22 D6 (io), 23 D4 (io), 24 D2 (io), 25 D0 (io), 26 OP6 (out), 27 OP4 (out), 28 OP2 (out), 29 OP0 (out), 30 TXDA (out), 31 RXDA (in), 32 X1/CLK (in), 33 X2 (out), 34 RST (in), 35 ~{CS} (in), 36 IP2 (in), 37 IP6 (in), 38 IP5 (in), 39 IP4 (in), 40 VCC (power)

## MC3440AP
designator U?
Quad Interface Bus Transceiver; Published: 17-Jul-2002; LatestRevisionDate: 06-Jun-2005; LatestRevisionNote: Stylized 3D Model Added.; DatasheetVersion: 1988; PackageReference: 648-06; Publisher: Altium Limited; PackageDescription: DIP; 16 Leads; Row Spacing 7.62 mm; Pitch 2.54 mm; ComponentLink1Description: Manufacturer Link; ComponentLink1URL: http://www.onsemi.com/site/products/parametrics/0,4446,178,00.html
footprint 648-06 (DIP; 16 Leads; Row Spacing 7.62 mm; Pitch 2.54 mm)
3D model 648-06 (DIP; 16 Leads; Row Spacing 7.62 mm; Pitch 2.54 mm)
pins: 1 TGND (power), 2 BUS A (oc), 3 RX OUTA (out), 4 DIN A (in), 5 DIN B (in), 6 RX OUTB (out), 7 BUS B (oc), 8 LGND (power), 9 BUS D (oc), 10 RX OUTD (out), 11 DIN D (in), 12 ~{EN} (in), 13 DIN C (in), 14 RX OUTC (out), 15 BUS C (oc), 16 VDD (power)

## MC3441AP
designator U?
Quad Interface Bus Transceiver; Published: 17-Jul-2002; LatestRevisionDate: 06-Jun-2005; LatestRevisionNote: Stylized 3D Model Added.; DatasheetVersion: 1988; PackageReference: 648-06; Publisher: Altium Limited; PackageDescription: DIP; 16 Leads; Row Spacing 7.62 mm; Pitch 2.54 mm; ComponentLink1Description: Manufacturer Link; ComponentLink1URL: http://www.onsemi.com/site/products/parametrics/0,4446,178,00.html
footprint 648-06 (DIP; 16 Leads; Row Spacing 7.62 mm; Pitch 2.54 mm)
3D model 648-06 (DIP; 16 Leads; Row Spacing 7.62 mm; Pitch 2.54 mm)
pins: 1 TGND (power), 2 BUS A (oc), 3 RX OUTA (out), 4 DIN A (in), 5 DIN B (in), 6 RX OUTB (out), 7 BUS B (oc), 8 LGND (power), 9 BUS D (oc), 10 RX OUTD (out), 11 DIN D (in), 12 ~{EN} (in), 13 DIN C (in), 14 RX OUTC (out), 15 BUS C (oc), 16 VDD (power)

## MC3446AP
designator U?
Quad Interface Bus Transceiver; Published: 17-Jul-2002; LatestRevisionDate: 06-Jun-2005; LatestRevisionNote: Stylized 3D Model Added.; DatasheetVersion: 1988; PackageReference: 648-06; Publisher: Altium Limited; PackageDescription: DIP; 16 Leads; Row Spacing 7.62 mm; Pitch 2.54 mm; ComponentLink1Description: Manufacturer Link; ComponentLink1URL: http://www.onsemi.com/site/products/parametrics/0,4446,178,00.html
footprint 648-06 (DIP; 16 Leads; Row Spacing 7.62 mm; Pitch 2.54 mm)
3D model 648-06 (DIP; 16 Leads; Row Spacing 7.62 mm; Pitch 2.54 mm)
pins: 1 RX OUTA (out), 2 BUS A (oc), 3 DIN A (in), 4 EN ABC (in), 5 DIN B (in), 6 BUS B (oc), 7 RX OUTB (out), 8 GND (power), 9 RX OUTC (out), 10 BUS C (oc), 11 DIN C (in), 12 EN D (in), 13 DIN D (in), 14 BUS D (oc), 15 RX OUTD (out), 16 VDD (power)

## MC3447L
designator U?
Octal Bi-Directional Bus Transceiver with Termination Networks; Published: 17-Jul-2002; LatestRevisionDate: 06-Jun-2005; LatestRevisionNote: Stylized 3D Model Added.; DatasheetVersion: 1988; PackageReference: 623-05; Publisher: Altium Limited; PackageDescription: DIP; 24 Leads; Row Spacing 15.24 mm; Pitch 2.54 mm; Code_JEDEC: MS-011-AA; ComponentLink1Description: Manufacturer Link; ComponentLink1URL: http://www.onsemi.com/site/products/parametrics/0,4446,178,00.html
footprint 623-05 (DIP; 24 Leads; Row Spacing 15.24 mm; Pitch 2.54 mm)
3D model 623-05 (DIP; 24 Leads; Row Spacing 15.24 mm; Pitch 2.54 mm)
pins: 1 S/~{R} (0) (in), 2 D0 (io), 3 D1 (io), 4 D2 (io), 5 D3 (io), 6 D4 (io), 7 D5 (io), 8 S/~{R} (5) (in), 9 D6 (io), 10 D7 (io), 11 S/~{R} (6) (in), 12 LGND (power), 13 BGND (power), 14 S/~{R} (7) (in), 15 BUS7 (io), 16 BUS6 (io), 17 S/~{R} (1-4) (in), 18 BUS5 (io), 19 BUS4 (io), 20 BUS3 (io), 21 BUS2 (io), 22 BUS1 (io), 23 BUS0 (io), 24 VDD (power)

## MC3447P3
designator U?
Octal Bi-Directional Bus Transceiver with Termination Networks; Published: 17-Jul-2002; LatestRevisionDate: 06-Jun-2005; LatestRevisionNote: Stylized 3D Model Added.; DatasheetVersion: 1988; PackageReference: 724-03; Publisher: Altium Limited; PackageDescription: DIP; 24 Leads; Row Spacing 7.62 mm; Pitch 2.54 mm; Code_JEDEC: MS-001-AF; ComponentLink1Description: Manufacturer Link; ComponentLink1URL: http://www.onsemi.com/site/products/parametrics/0,4446,178,00.html
footprint 724-03 (DIP; 24 Leads; Row Spacing 7.62 mm; Pitch 2.54 mm)
3D model 724-03 (DIP; 24 Leads; Row Spacing 7.62 mm; Pitch 2.54 mm)
pins: 1 S/~{R} (0) (in), 2 D0 (io), 3 D1 (io), 4 D2 (io), 5 D3 (io), 6 D4 (io), 7 D5 (io), 8 S/~{R} (5) (in), 9 D6 (io), 10 D7 (io), 11 S/~{R} (6) (in), 12 LGND (power), 13 BGND (power), 14 S/~{R} (7) (in), 15 BUS7 (io), 16 BUS6 (io), 17 S/~{R} (1-4) (in), 18 BUS5 (io), 19 BUS4 (io), 20 BUS3 (io), 21 BUS2 (io), 22 BUS1 (io), 23 BUS0 (io), 24 VDD (power)

## MC3448AD
designator U?
Quad Three-State Bus Transceiver; Published: 17-Jul-2002; LatestRevisionDate: 13-Apr-2006; LatestRevisionNote: IPC-7351 Footprint Added.; DatasheetVersion: 1988; PackageVersion: 1991; PackageReference: 751B-03; Publisher: Altium Limited; PackageDescription: 16-Pin Small Outline Integrated Circuit 1.27 mm Pitch; Code_JEDEC: MS-012-AC; Code_IPC: SOIC127P600-16; ComponentLink1Description: Manufacturer Link; ComponentLink1URL: http://www.onsemi.com/site/products/parametrics/0,4446,178,00.html
footprint 751B-03_N (SOIC, 16-Leads, Body 9.9x3.9mm, Pitch 1.27mm, IPC Medium Density)
footprint 751B-03_L (SOIC, 16-Leads, Body 9.9x3.9mm, Pitch 1.27mm, IPC High Density)
footprint 751B-03_M (SOIC, 16-Leads, Body 9.9x3.9mm, Pitch 1.27mm, IPC Low Density)
3D model 751B-03 (16-Pin Small Outline Integrated Circuit 1.27 mm Pitch)
pins: 1 S/R A (in), 2 D A (io), 3 BUS A (io), 4 EN AB (in), 5 BUS B (io), 6 D B (io), 7 S/R B (in), 8 GND (power), 9 S/R C (in), 10 D C (io), 11 BUS C (io), 12 EN CD (in), 13 BUS D (io), 14 D D (io), 15 S/R D (in), 16 VDD (power)

## MC3448AL
designator U?
Quad Three-State Bus Transceiver; Published: 17-Jul-2002; LatestRevisionDate: 06-Jun-2005; LatestRevisionNote: Stylized 3D Model Added.; DatasheetVersion: 1988; PackageReference: 620-10; Publisher: Altium Limited; PackageDescription: DIP; 16 Leads; Row Spacing 7.62 mm; Pitch 2.54 mm; ComponentLink1Description: Manufacturer Link; ComponentLink1URL: http://www.onsemi.com/site/products/parametrics/0,4446,178,00.html
footprint 620-10 (DIP; 16 Leads; Row Spacing 7.62 mm; Pitch 2.54 mm)
3D model 620-10 (DIP; 16 Leads; Row Spacing 7.62 mm; Pitch 2.54 mm)
pins: 1 S/R A (in), 2 D A (io), 3 BUS A (io), 4 EN AB (in), 5 BUS B (io), 6 D B (io), 7 S/R B (in), 8 GND (power), 9 S/R C (in), 10 D C (io), 11 BUS C (io), 12 EN CD (in), 13 BUS D (io), 14 D D (io), 15 S/R D (in), 16 VDD (power)

## MC3448AP
designator U?
Quad Three-State Bus Transceiver; Published: 17-Jul-2002; LatestRevisionDate: 06-Jun-2005; LatestRevisionNote: Stylized 3D Model Added.; DatasheetVersion: 1988; PackageReference: 648-06; Publisher: Altium Limited; PackageDescription: DIP; 16 Leads; Row Spacing 7.62 mm; Pitch 2.54 mm; ComponentLink1Description: Manufacturer Link; ComponentLink1URL: http://www.onsemi.com/site/products/parametrics/0,4446,178,00.html
footprint 648-06 (DIP; 16 Leads; Row Spacing 7.62 mm; Pitch 2.54 mm)
3D model 648-06 (DIP; 16 Leads; Row Spacing 7.62 mm; Pitch 2.54 mm)
pins: 1 S/R A (in), 2 D A (io), 3 BUS A (io), 4 EN AB (in), 5 BUS B (io), 6 D B (io), 7 S/R B (in), 8 GND (power), 9 S/R C (in), 10 D C (io), 11 BUS C (io), 12 EN CD (in), 13 BUS D (io), 14 D D (io), 15 S/R D (in), 16 VDD (power)

## MC6880AL
designator U?
Quad Three-State Bus Transceiver; Published: 17-Jul-2002; LatestRevisionDate: 06-Jun-2005; LatestRevisionNote: Stylized 3D Model Added.; DatasheetVersion: 1988; PackageReference: 620-10; Publisher: Altium Limited; PackageDescription: DIP; 16 Leads; Row Spacing 7.62 mm; Pitch 2.54 mm; ComponentLink1Description: Manufacturer Link; ComponentLink1URL: http://www.onsemi.com/site/products/parametrics/0,4446,178,00.html
footprint 620-10 (DIP; 16 Leads; Row Spacing 7.62 mm; Pitch 2.54 mm)
3D model 620-10 (DIP; 16 Leads; Row Spacing 7.62 mm; Pitch 2.54 mm)
pins: 1 RX EN (in), 2 RX OUT1 (hiz), 3 BUS1 (io), 4 IN1 (in), 5 RX OUT2 (hiz), 6 BUS2 (io), 7 IN2 (in), 8 GND (power), 9 IN3 (in), 10 BUS3 (io), 11 RX OUT3 (hiz), 12 IN4 (in), 13 BUS4 (io), 14 RX OUT4 (hiz), 15 DRV EN (in), 16 VDD (power)

## MC6880AP
designator U?
Quad Three-State Bus Transceiver; Published: 17-Jul-2002; LatestRevisionDate: 06-Jun-2005; LatestRevisionNote: Stylized 3D Model Added.; DatasheetVersion: 1988; PackageReference: 648-06; Publisher: Altium Limited; PackageDescription: DIP; 16 Leads; Row Spacing 7.62 mm; Pitch 2.54 mm; ComponentLink1Description: Manufacturer Link; ComponentLink1URL: http://www.onsemi.com/site/products/parametrics/0,4446,178,00.html
footprint 648-06 (DIP; 16 Leads; Row Spacing 7.62 mm; Pitch 2.54 mm)
3D model 648-06 (DIP; 16 Leads; Row Spacing 7.62 mm; Pitch 2.54 mm)
pins: 1 RX EN (in), 2 RX OUT1 (hiz), 3 BUS1 (io), 4 IN1 (in), 5 RX OUT2 (hiz), 6 BUS2 (io), 7 IN2 (in), 8 GND (power), 9 IN3 (in), 10 BUS3 (io), 11 RX OUT3 (hiz), 12 IN4 (in), 13 BUS4 (io), 14 RX OUT4 (hiz), 15 DRV EN (in), 16 VDD (power)

## MC6889L
designator U?
Non-Inverting Bus Transceiver; Published: 17-Jul-2002; LatestRevisionDate: 06-Jun-2005; LatestRevisionNote: Stylized 3D Model Added.; DatasheetVersion: 1988; PackageReference: 620-10; Publisher: Altium Limited; PackageDescription: DIP; 16 Leads; Row Spacing 7.62 mm; Pitch 2.54 mm; ComponentLink1Description: Manufacturer Link; ComponentLink1URL: http://www.onsemi.com/site/products/parametrics/0,4446,178,00.html
footprint 620-10 (DIP; 16 Leads; Row Spacing 7.62 mm; Pitch 2.54 mm)
3D model 620-10 (DIP; 16 Leads; Row Spacing 7.62 mm; Pitch 2.54 mm)
pins: 1 ~{RX EN} (in), 2 RX OUT1 (hiz), 3 BUS1 (io), 4 DIN1 (in), 5 RX OUT2 (hiz), 6 BUS2 (io), 7 DIN2 (in), 8 GND (power), 9 DIN3 (in), 10 BUS3 (io), 11 RX OUT3 (hiz), 12 DIN4 (in), 13 BUS4 (io), 14 RX OUT4 (hiz), 15 DRV EN (in), 16 VDD (power)

## MC6889P
designator U?
Non-Inverting Bus Transceiver; Published: 17-Jul-2002; LatestRevisionDate: 06-Jun-2005; LatestRevisionNote: Stylized 3D Model Added.; DatasheetVersion: 1988; PackageReference: 648-06; Publisher: Altium Limited; PackageDescription: DIP; 16 Leads; Row Spacing 7.62 mm; Pitch 2.54 mm; ComponentLink1Description: Manufacturer Link; ComponentLink1URL: http://www.onsemi.com/site/products/parametrics/0,4446,178,00.html
footprint 648-06 (DIP; 16 Leads; Row Spacing 7.62 mm; Pitch 2.54 mm)
3D model 648-06 (DIP; 16 Leads; Row Spacing 7.62 mm; Pitch 2.54 mm)
pins: 1 ~{RX EN} (in), 2 RX OUT1 (hiz), 3 BUS1 (io), 4 DIN1 (in), 5 RX OUT2 (hiz), 6 BUS2 (io), 7 DIN2 (in), 8 GND (power), 9 DIN3 (in), 10 BUS3 (io), 11 RX OUT3 (hiz), 12 DIN4 (in), 13 BUS4 (io), 14 RX OUT4 (hiz), 15 DRV EN (in), 16 VDD (power)

## MC34050L
designator U?
Dual EIA-422/423 Transceiver; Published: 17-Jul-2002; LatestRevisionDate: 06-Jun-2005; LatestRevisionNote: Stylized 3D Model Added.; DatasheetVersion: 1988; PackageReference: 620-10; Publisher: Altium Limited; PackageDescription: DIP; 16 Leads; Row Spacing 7.62 mm; Pitch 2.54 mm; ComponentLink1Description: Manufacturer Link; ComponentLink1URL: http://www.onsemi.com/site/products/parametrics/0,4446,178,00.html
footprint 620-10 (DIP; 16 Leads; Row Spacing 7.62 mm; Pitch 2.54 mm)
3D model 620-10 (DIP; 16 Leads; Row Spacing 7.62 mm; Pitch 2.54 mm)
pins: 1 REC1 IN- (in), 2 REC1 IN+ (in), 3 REC1 OUT (hiz), 4 ~{REC EN} (in), 5 REC2 OUT (hiz), 6 REC2 IN+ (in), 7 REC2 IN- (in), 8 GND (power), 9 DR2 IN (in), 10 DR2 OUT (hiz), 11 ~{DR}2 ~{OUT} (hiz), 12 DR EN (in), 13 ~{DR}1 ~{OUT} (hiz), 14 DR1 OUT (hiz), 15 DR1 IN (in), 16 VCC (power)

## MC34050P
designator U?
Dual EIA-422/423 Transceiver; Published: 17-Jul-2002; LatestRevisionDate: 06-Jun-2005; LatestRevisionNote: Stylized 3D Model Added.; DatasheetVersion: 1988; PackageReference: 648-06; Publisher: Altium Limited; PackageDescription: DIP; 16 Leads; Row Spacing 7.62 mm; Pitch 2.54 mm; ComponentLink1Description: Manufacturer Link; ComponentLink1URL: http://www.onsemi.com/site/products/parametrics/0,4446,178,00.html
footprint 648-06 (DIP; 16 Leads; Row Spacing 7.62 mm; Pitch 2.54 mm)
3D model 648-06 (DIP; 16 Leads; Row Spacing 7.62 mm; Pitch 2.54 mm)
pins: 1 REC1 IN- (in), 2 REC1 IN+ (in), 3 REC1 OUT (hiz), 4 ~{REC EN} (in), 5 REC2 OUT (hiz), 6 REC2 IN+ (in), 7 REC2 IN- (in), 8 GND (power), 9 DR2 IN (in), 10 DR2 OUT (hiz), 11 ~{DR}2 ~{OUT} (hiz), 12 DR EN (in), 13 ~{DR}1 ~{OUT} (hiz), 14 DR1 OUT (hiz), 15 DR1 IN (in), 16 VCC (power)

## MC34051L
designator U?
Dual EIA-422/423 Transceiver; Published: 17-Jul-2002; LatestRevisionDate: 06-Jun-2005; LatestRevisionNote: Stylized 3D Model Added.; DatasheetVersion: 1988; PackageReference: 620-10; Publisher: Altium Limited; PackageDescription: DIP; 16 Leads; Row Spacing 7.62 mm; Pitch 2.54 mm; ComponentLink1Description: Manufacturer Link; ComponentLink1URL: http://www.onsemi.com/site/products/parametrics/0,4446,178,00.html
footprint 620-10 (DIP; 16 Leads; Row Spacing 7.62 mm; Pitch 2.54 mm)
3D model 620-10 (DIP; 16 Leads; Row Spacing 7.62 mm; Pitch 2.54 mm)
pins: 1 REC1 IN- (in), 2 REC1 IN+ (in), 3 REC1 OUT (hiz), 4 DR1 EN (in), 5 REC2 OUT (hiz), 6 REC2 IN+ (in), 7 REC2 IN- (in), 8 GND (power), 9 DR2 IN (in), 10 DR2 OUT (hiz), 11 ~{DR}2 ~{OUT} (hiz), 12 DR2 EN (in), 13 ~{DR}1 ~{OUT} (hiz), 14 DR1 OUT (hiz), 15 DR1 IN (in), 16 VCC (power)